# Altium footprint library DC2342A-4-LAYOUT-ASCII.PcbLib: 20 footprints (part 1 of 2)
Each footprint in its own frame and in the unit in brackets; x right, y up, seen from the top. Pads: shape width x height; smd on the part's side, far side on the other; paste and mask are expansions set on the pad; w line width, h text height; cw(c..) or ccw(c..) is an arc to the next point about the centre after c.
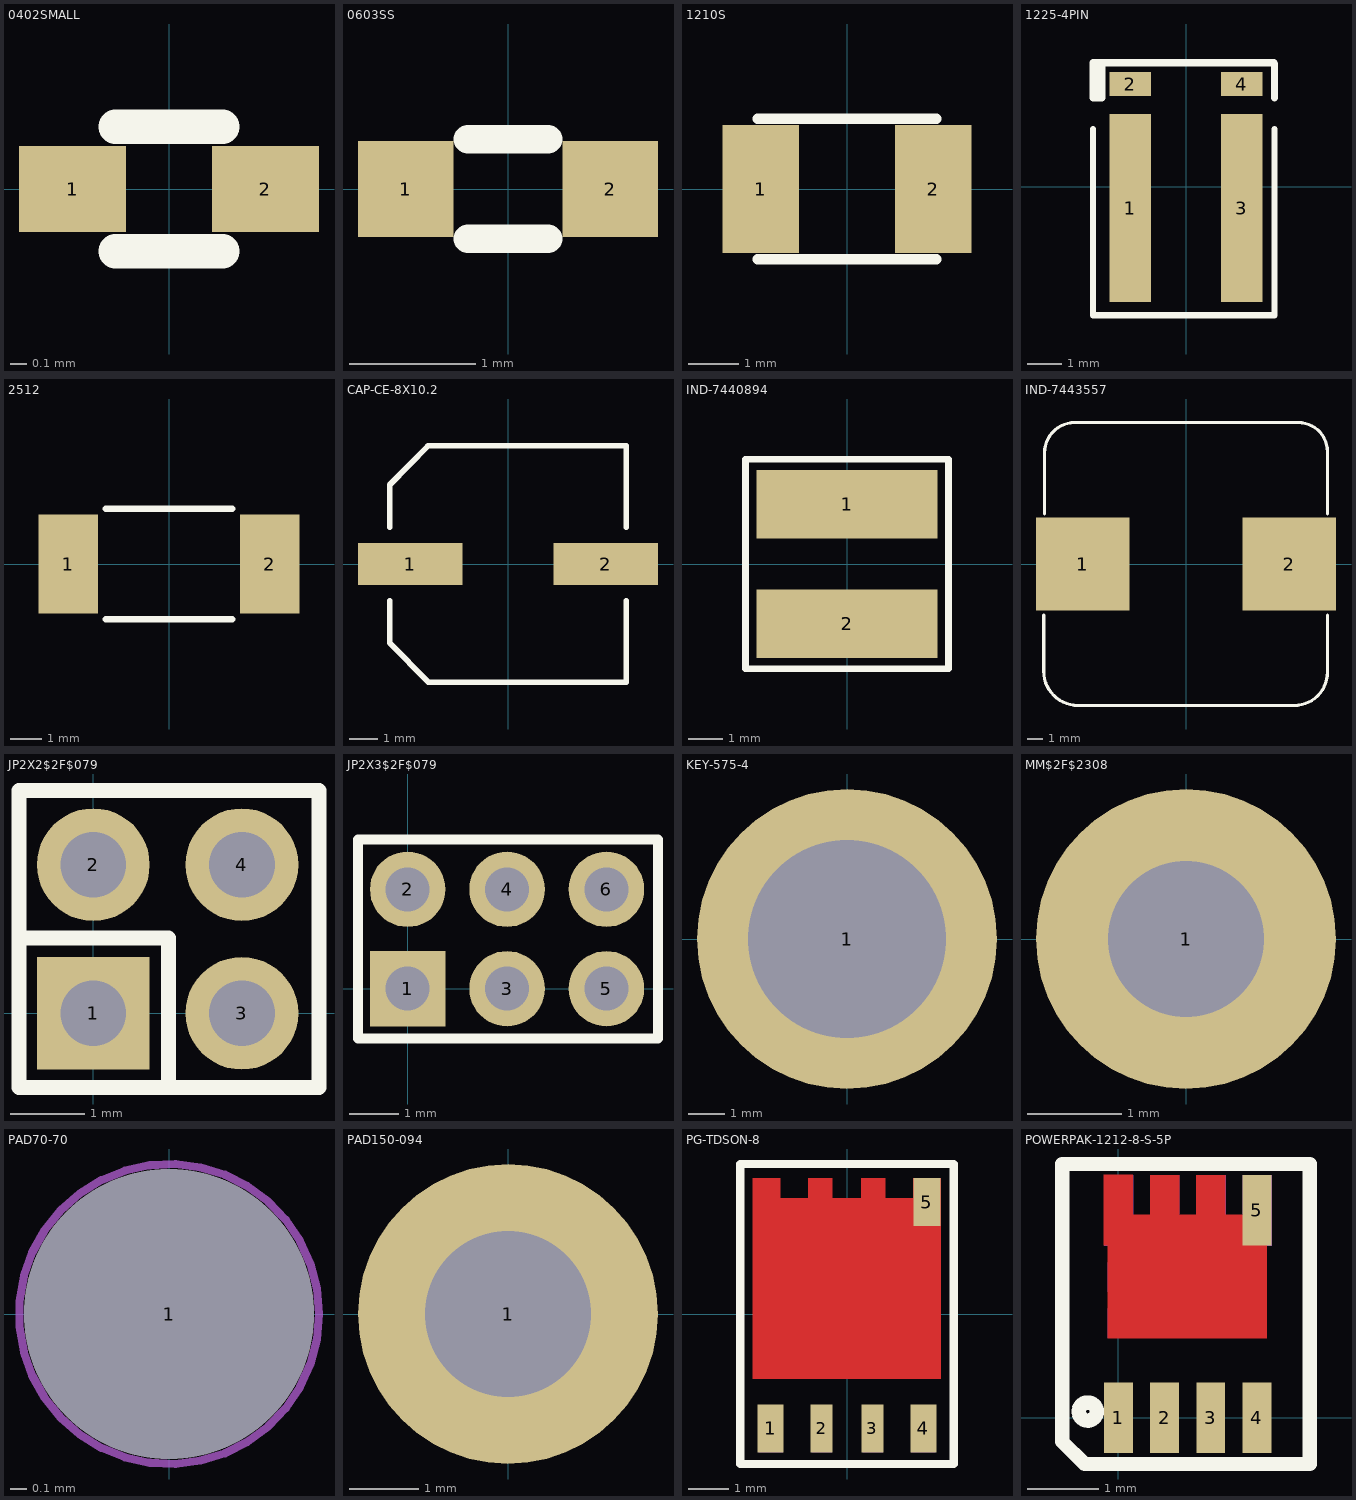
[diagram p0: the footprints below, top view; thin cyan lines are the x and y axes]

## 0402SMALL [mil]
pads (2):
  rect 25x20 smd: 1(-22.5,0) 2(22.5,0)
Top Overlay:
  lines w8: -12.5,-14.5 12.5,-14.5 ; -12.5,14.5 12.5,14.5

## 0603SS [mil]
pads (2):
  rect 30x30 smd: 1(-32,0) 2(32,0)
Top Overlay:
  lines w9: -12.5,-15.63 12.5,-15.63 ; -12.5,15.63 12.5,15.63

## 1210S [mil]
pads (2):
  rect 60x100 smd: 1(-67.5,0) 2(67.5,0)
Top Overlay:
  lines w8: -70,-55 70,-55 ; -70,55 70,55

## 1225-4PIN [mm]
pads (4):
  rect 1.2x5.4 smd: 1(-1.6,-0.61) 3(1.6,-0.61)
  rect 1.2x0.7 smd: 2(-1.6,2.946) 4(1.6,2.946)
Top Overlay:
  lines w0.178: -2.667,1.651 -2.667,-3.683 2.54,-3.683 2.54,1.651 ; -2.54,2.667 -2.54,3.429
  lines w0.203: -2.413,3.535 -2.413,2.54 -2.667,2.54 -2.667,3.556 2.519,3.556 2.54,3.535 2.54,2.54

## 2512 [mil]
pads (2):
  rect 75x125 smd: 1(-127.5,0) 2(127.5,0)
Top Overlay:
  lines w8: -80,-70 80,-70 ; -80,70 80,70

## CAP-CE-8X10.2 [mm]
pads (2):
  rect 3.7x1.5 smd: 1(-3.45,0) 2(3.45,0)
Top Overlay:
  lines w0.203: -4.175,-1.3 -4.175,-2.789 -2.817,-4.175 4.175,-4.175 4.175,-1.3 ; -4.175,1.3 -4.175,2.802 -2.83,4.175 4.175,4.175 4.175,1.3

## IND-7440894 [mm]
pads (2):
  rect 5.3x2 smd: 1(0,1.75) 2(0,-1.75)
Top Overlay:
  lines w0.203: -2.972,-3.073 -2.972,3.073 2.972,3.073 2.972,-3.073 -2.972,-3.073

## IND-7443557 [mm]
pads (2):
  rect 6x6 smd: 1(-6.65,0) 2(6.65,0)
Top Overlay:
  lines w0.203: -9.15,-3.29 -9.15,-6.906 ccw(c-6.956,-6.906) -6.956,-9.1 6.967,-9.1 ccw(c6.967,-6.967) 9.1,-6.967 9.1,-3.29 ; -9.1,3.22 -9.1,7.156 cw(c-7.156,7.156) -7.156,9.1 7.222,9.1 cw(c7.222,7.222) 9.1,7.222 9.1,3.22

## JP2X2$2F$079 [mil]
pads (4):
  rect 60x60 / inner round 60 / far side rect 60x60 hole 35: 1(0,0)
  round 60 hole 35: 2(0,79) 3(79,0) 4(79,79)
Top Overlay:
  lines w8: -38,40 40,40 40,-39 ; -39.5,-39.5 -39.5,118.5 120,118.5 120,-39.5 -39.5,-39.5

## JP2X3$2F$079 [mil]
pads (6):
  rect 60x60 / inner round 60 / far side rect 60x60 hole 35: 1(0,0)
  round 60 hole 35: 2(0,79) 3(79,0) 4(79,79) 5(158,0) 6(158,79)
Top Overlay:
  lines w8: -39.5,-39.5 -39.5,118.5 199,118.5 199,-39.5 -39.5,-39.5

## KEY-575-4 [mil]
pads (1):
  round 325 hole 215: 1(0,0)

## MM$2F$2308 [mil]
pads (1):
  round 125 hole 65: 1(0,0)

## PAD70-70 [mil]
pads (1):
  round 70 hole 70 unplated: 1(0,0)
Top Assembly:
  circle w1.97: c0,0 r36.25
Mechanical 23:
  circle w1.97: c0,0 r36.25

## PAD150-094 [mil]
pads (1):
  round 170 hole 94: 1(0,0)

## PG-TDSON-8 [mm]
pads (5):
  rect 0.65x1.2 smd: 1(-1.905,-2.857) 4(1.905,-2.857)
  rect 0.55x1.2 smd: 2(-0.635,-2.857) 3(0.635,-2.857)
  rect 0.68x1.2 smd: 5(1.995,2.792)
Top Layer:
  region: -2.349,-1.613 2.337,-1.613 2.337,3.391 1.651,3.391 1.651,2.896 0.96,2.896 0.96,3.391 0.361,3.391 0.361,2.896 -0.37,2.896 -0.37,3.391 -0.97,3.391 -0.97,2.896 -1.664,2.896 -1.664,3.391 -2.349,3.391
Top Overlay:
  lines w0.203: -2.667,-3.746 -2.667,3.746 2.667,3.746 2.667,-3.746 -2.667,-3.746
Mechanical 20:
  region: 2,0.45 0.275,0.45 0.275,-1.25 2,-1.25
  region: -0.3,0.45 -2,0.45 -2,-1.25 -0.3,-1.25
  region: 0.906,3.386 0.407,3.386 0.407,2.896 0.906,2.896
  region: -0.414,3.386 -0.914,3.386 -0.914,2.896 -0.414,2.896
  region: -1.7,3.39 -2.3,3.39 -2.3,2.9 -1.7,2.9
  region: 2.3,3.39 1.7,3.39 1.7,2.9 2.3,2.9
  region: 2,2.55 0.275,2.55 0.275,0.85 2,0.85
  region: -0.3,2.55 -2,2.55 -2,0.85 -0.3,0.85
  region: 0.887,-2.454 0.388,-2.454 0.388,-3.454 0.887,-3.454
  region: -0.385,-2.451 -0.884,-2.451 -0.884,-3.451 -0.385,-3.451
  region: 2.21,-2.45 1.61,-2.45 1.61,-3.45 2.21,-3.45
  region: -1.61,-2.45 -2.21,-2.45 -2.21,-3.45 -1.61,-3.45

## POWERPAK-1212-8-S-5P [mil]
pads (5):
  rect 16x39 smd: 1(0,0) 2(25.6,0) 3(51.2,0) 4(76.8,0) 5(76.8,115.2)
Top Layer:
  region: -5.91,112.6 82.28,112.6 82.28,44.09 -5.91,44.09
  region: -8.02,134.73 8.01,134.73 8.01,95.74 -8.02,95.74
  region: 17.61,134.7 33.64,134.7 33.64,95.71 17.61,95.71
  region: 43.2,134.69 59.23,134.69 59.23,95.71 43.2,95.71
Top Overlay:
  circle w8: c-17,3.5 r5.02
  lines w8: -31.25,-13.1 -31.25,140.8 106.25,140.8 106.25,-25.6 -18.75,-25.6 -31.25,-13.1
Mechanical 20:
  region: 68.9,134.49 84.93,134.49 84.93,95.51 68.9,95.51
  region: -5.99,44.4 -5.99,60.43 32.99,60.43 32.99,44.4
  region: 43.01,44.4 43.01,60.43 81.99,60.43 81.99,44.4
  region: 43.01,69.9 43.01,85.93 81.99,85.93 81.99,69.9
  region: -5.99,69.9 -5.99,85.93 32.99,85.93 32.99,69.9
  region: -7.82,134.53 8.21,134.53 8.21,95.54 -7.82,95.54
  region: 17.81,134.5 33.84,134.5 33.84,95.51 17.81,95.51
  region: 43.4,134.49 59.43,134.49 59.43,95.51 43.4,95.51